# EAGLE library part ENC28J60 (library sapphire)
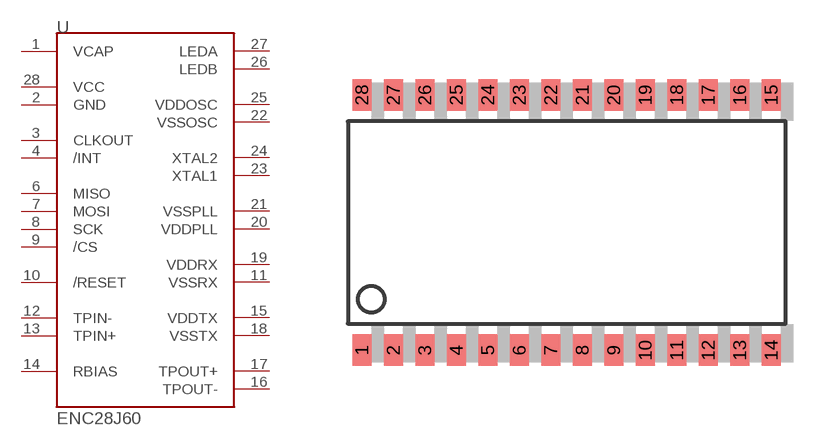
[diagram p9: symbol with the pads of SO-28W; footprint SO-28W]

Designator prefix -

## ENC28J60  [SO-28W]
1  VCAP
2  GND
3  CLKOUT
4  /INT
6  MISO
7  MOSI
8  SCK
9  /CS
10  /RESET
11  VSSRX
12  TPIN-
13  TPIN+
14  RBIAS
15  VDDTX
16  TPOUT-
17  TPOUT+
18  VSSTX
19  VDDRX
20  VDDPLL
21  VSSPLL
22  VSSOSC
23  XTAL1
24  XTAL2
25  VDDOSC
26  LEDB
27  LEDA
28  VCC

## Footprint SO-28W (pad centres in mm)
smd 0.762 x 1.27: 1 -8.255,-5.207; 2 -6.985,-5.207; 3 -5.715,-5.207; 4 -4.445,-5.207; 5 -3.175,-5.207; 6 -1.905,-5.207; 7 -0.635,-5.207; 8 0.635,-5.207; 9 1.905,-5.207; 10 3.175,-5.207; 11 4.445,-5.207; 12 5.715,-5.207; 13 6.985,-5.207; 14 8.255,-5.207; 15 8.255,5.08; 16 6.985,5.08; 17 5.715,5.08; 18 4.445,5.08; 19 3.175,5.08; 20 1.905,5.08; 21 0.635,5.08; 22 -0.635,5.08; 23 -1.905,5.08; 24 -3.175,5.08; 25 -4.445,5.08; 26 -5.715,5.08; 27 -6.985,5.08; 28 -8.255,5.08